# Altium integrated library Maxim Logic Multiplexer.IntLib: 168 symbols (part 3 of 4)
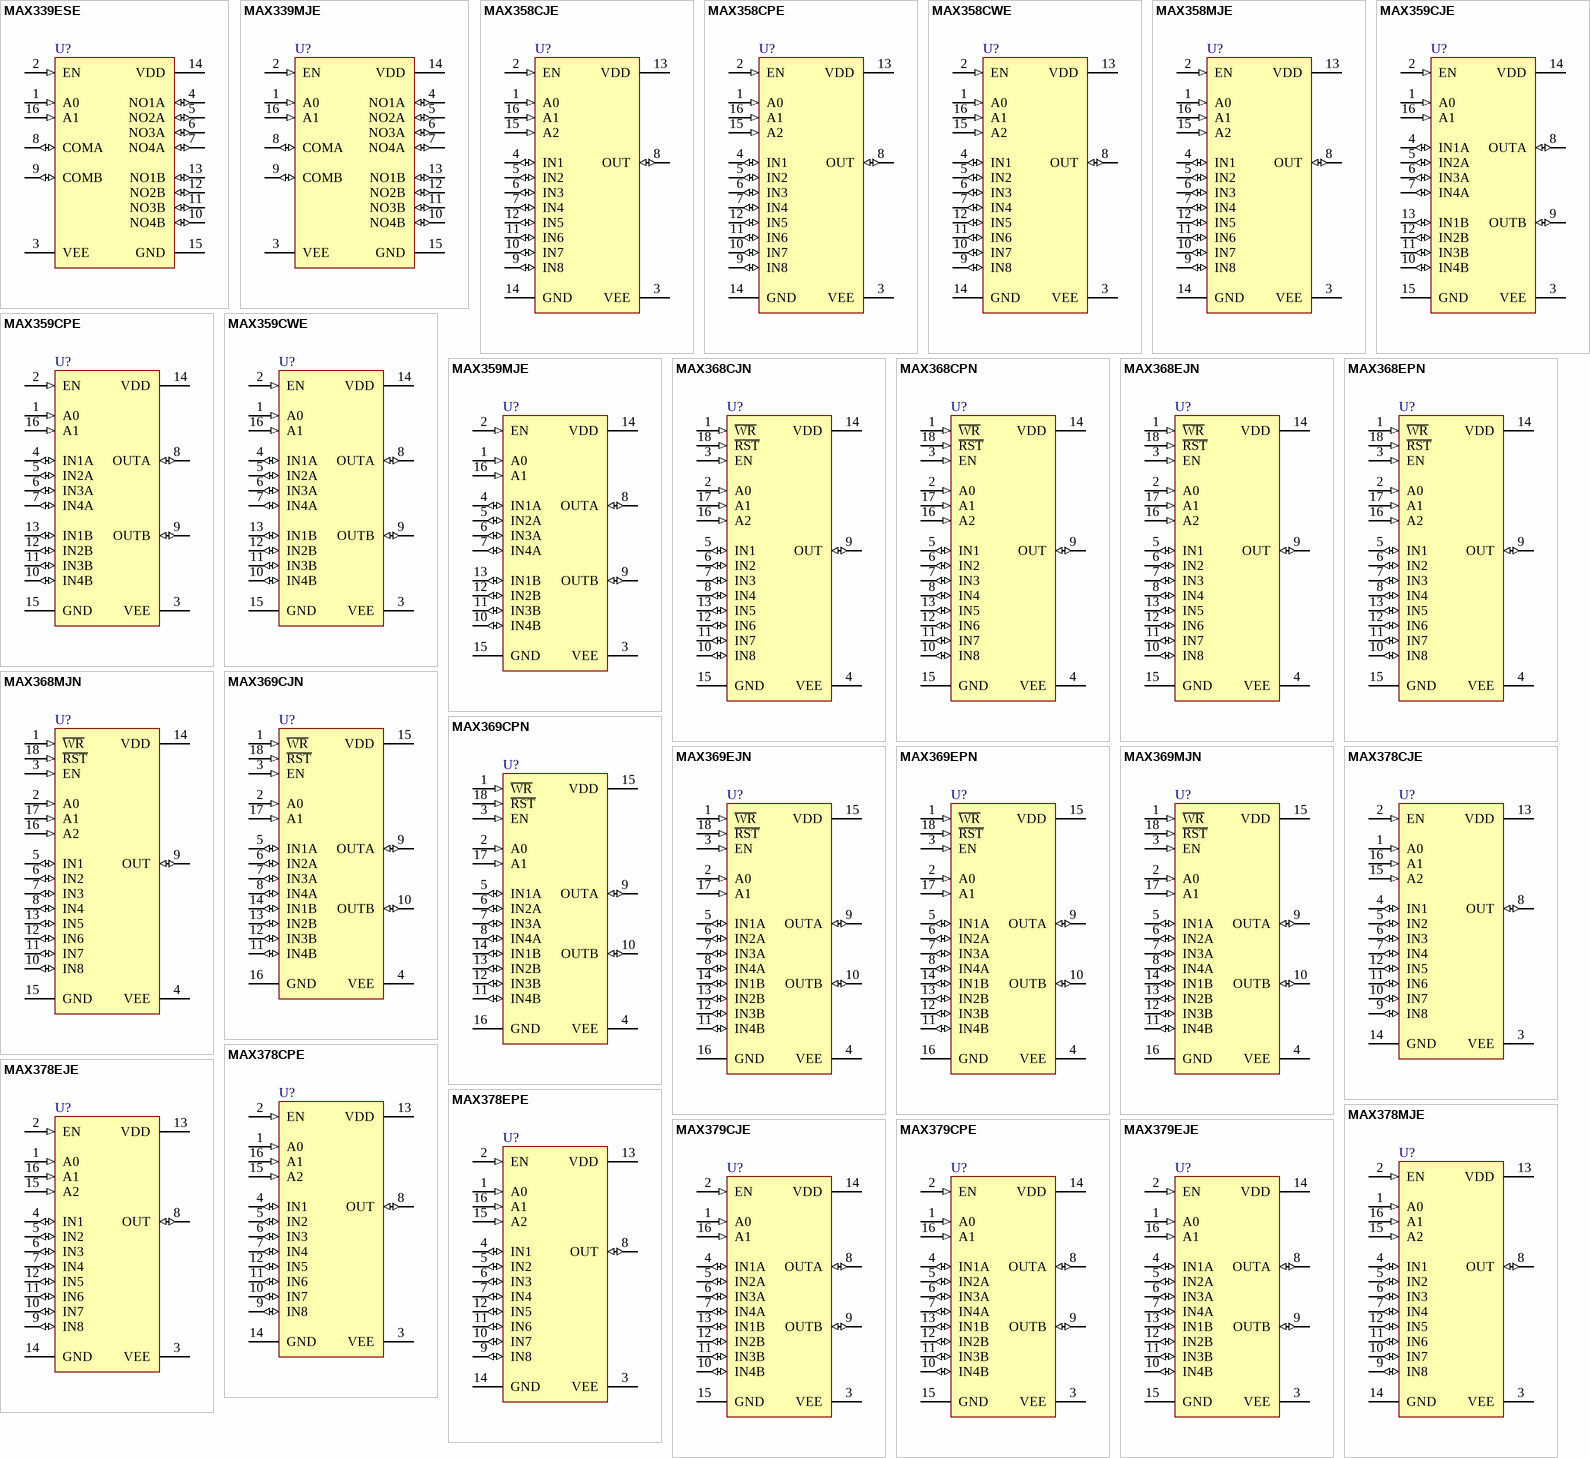
[diagram p8: symbols MAX339ESE to MAX379EJE]

## MAX369EPN
designator U?
Fault-protected Analog Multiplexer with Latch; Published: 16-Jan-2001; LatestRevisionDate: 29-May-2009; LatestRevisionNote: Component Body Added.; DatasheetVersion: Jul-1996; PackageVersion: 1997; PackageReference: PN18A; Publisher: Altium Limited; PackageDescription: DIP, 18-Pin, Row Spacing 7.62 mm, Pitch 2.54 mm; ComponentLink1Description: Manufacturer Link; ComponentLink1URL: http://www.maxim-ic.com/; ComponentLink2Description: Datasheet; ComponentLink2URL: http://pdfserv.maxim-ic.com/en/ds/MAX368-MAX369.pdf
footprint PN18A (DIP, 18-Leads, Row Spacing 7.62mm, Pitch 2.54mm, Body 22.86x6.99mm)
3D model PN18 (DIP, 18-Pin, Row Spacing 7.62 mm, Pitch 2.54 mm)
pins: 1 ~{WR} (in), 2 A0 (in), 3 EN (in), 4 VEE (power), 5 IN1A (io), 6 IN2A (io), 7 IN3A (io), 8 IN4A (io), 9 OUTA (io), 10 OUTB (io), 11 IN4B (io), 12 IN3B (io), 13 IN2B (io), 14 IN1B (io), 15 VDD (power), 16 GND (power), 17 A1 (in), 18 ~{RST} (in)

## MAX369MJN
designator U?
Fault-protected Analog Multiplexer with Latch; Published: 16-Jan-2001; LatestRevisionDate: 29-May-2009; LatestRevisionNote: Component Body Added.; DatasheetVersion: Jul-1996; PackageVersion: 1996; PackageReference: JN18; Publisher: Altium Limited; PackageDescription: DIP, 18-Pin, Row Spacing 7.62 mm, Pitch 2.54 mm; ComponentLink1Description: Manufacturer Link; ComponentLink1URL: http://www.maxim-ic.com/; ComponentLink2Description: Datasheet; ComponentLink2URL: http://pdfserv.maxim-ic.com/en/ds/MAX368-MAX369.pdf
footprint JN18 (DIP, 18-Leads, Row Spacing 7.62mm, Pitch 2.54mm, Body 24.13x6.73mm)
3D model JN18 (DIP, 18-Pin, Row Spacing 7.62 mm, Pitch 2.54 mm)
pins: 1 ~{WR} (in), 2 A0 (in), 3 EN (in), 4 VEE (power), 5 IN1A (io), 6 IN2A (io), 7 IN3A (io), 8 IN4A (io), 9 OUTA (io), 10 OUTB (io), 11 IN4B (io), 12 IN3B (io), 13 IN2B (io), 14 IN1B (io), 15 VDD (power), 16 GND (power), 17 A1 (in), 18 ~{RST} (in)

## MAX378CJE
designator U?
High-Voltage, Fault-Protected Analog Multiplexer; Published: 16-Jan-2001; LatestRevisionDate: 29-May-2009; LatestRevisionNote: Component Body Added.; DatasheetVersion: Aug-1994; PackageVersion: 1996; PackageReference: JE16; Publisher: Altium Limited; PackageDescription: DIP, 16-Pin, Row Spacing 7.62 mm, Pitch 2.54 mm; ComponentLink1Description: Manufacturer Link; ComponentLink1URL: http://www.maxim-ic.com/; ComponentLink2Description: Datasheet; ComponentLink2URL: http://pdfserv.maxim-ic.com/en/ds/MAX378-MAX379.pdf
footprint JE16 (DIP, 16-Leads, Row Spacing 7.62mm, Pitch 2.54mm, Body 20.37x6.73mm)
3D model JE16 (DIP, 16-Pin, Row Spacing 7.62 mm, Pitch 2.54 mm)
pins: 1 A0 (in), 2 EN (in), 3 VEE (power), 4 IN1 (io), 5 IN2 (io), 6 IN3 (io), 7 IN4 (io), 8 OUT (io), 9 IN8 (io), 10 IN7 (io), 11 IN6 (io), 12 IN5 (io), 13 VDD (power), 14 GND (power), 15 A2 (in), 16 A1 (in)

## MAX378CPE
designator U?
High-Voltage, Fault-Protected Analog Multiplexer; Published: 16-Jan-2001; LatestRevisionDate: 29-May-2009; LatestRevisionNote: Component Body Added.; DatasheetVersion: Aug-1994; PackageVersion: 1997; PackageReference: PE16A; Publisher: Altium Limited; PackageDescription: DIP, 16-Pin, Row Spacing 7.62 mm, Pitch 2.54 mm; Code_JEDEC: MS-001-BB; ComponentLink1Description: Manufacturer Link; ComponentLink1URL: http://www.maxim-ic.com/; ComponentLink2Description: Datasheet; ComponentLink2URL: http://pdfserv.maxim-ic.com/en/ds/MAX378-MAX379.pdf
footprint PE16A (DIP, 16-Leads, Row Spacing 7.62mm, Pitch 2.54mm, Body 19.18x6.99mm)
3D model PE16 (DIP, 16-Pin, Row Spacing 7.62 mm, Pitch 2.54 mm)
pins: 1 A0 (in), 2 EN (in), 3 VEE (power), 4 IN1 (io), 5 IN2 (io), 6 IN3 (io), 7 IN4 (io), 8 OUT (io), 9 IN8 (io), 10 IN7 (io), 11 IN6 (io), 12 IN5 (io), 13 VDD (power), 14 GND (power), 15 A2 (in), 16 A1 (in)

## MAX378EJE
designator U?
High-Voltage, Fault-Protected Analog Multiplexer; Published: 16-Jan-2001; LatestRevisionDate: 29-May-2009; LatestRevisionNote: Component Body Added.; DatasheetVersion: Aug-1994; PackageVersion: 1996; PackageReference: JE16; Publisher: Altium Limited; PackageDescription: DIP, 16-Pin, Row Spacing 7.62 mm, Pitch 2.54 mm; ComponentLink1Description: Manufacturer Link; ComponentLink1URL: http://www.maxim-ic.com/; ComponentLink2Description: Datasheet; ComponentLink2URL: http://pdfserv.maxim-ic.com/en/ds/MAX378-MAX379.pdf
footprint JE16 (DIP, 16-Leads, Row Spacing 7.62mm, Pitch 2.54mm, Body 20.37x6.73mm)
3D model JE16 (DIP, 16-Pin, Row Spacing 7.62 mm, Pitch 2.54 mm)
pins: 1 A0 (in), 2 EN (in), 3 VEE (power), 4 IN1 (io), 5 IN2 (io), 6 IN3 (io), 7 IN4 (io), 8 OUT (io), 9 IN8 (io), 10 IN7 (io), 11 IN6 (io), 12 IN5 (io), 13 VDD (power), 14 GND (power), 15 A2 (in), 16 A1 (in)

## MAX378EPE
designator U?
High-Voltage, Fault-Protected Analog Multiplexer; Published: 16-Jan-2001; LatestRevisionDate: 29-May-2009; LatestRevisionNote: Component Body Added.; DatasheetVersion: Aug-1994; PackageVersion: 1997; PackageReference: PE16A; Publisher: Altium Limited; PackageDescription: DIP, 16-Pin, Row Spacing 7.62 mm, Pitch 2.54 mm; Code_JEDEC: MS-001-BB; ComponentLink1Description: Manufacturer Link; ComponentLink1URL: http://www.maxim-ic.com/; ComponentLink2Description: Datasheet; ComponentLink2URL: http://pdfserv.maxim-ic.com/en/ds/MAX378-MAX379.pdf
footprint PE16A (DIP, 16-Leads, Row Spacing 7.62mm, Pitch 2.54mm, Body 19.18x6.99mm)
3D model PE16 (DIP, 16-Pin, Row Spacing 7.62 mm, Pitch 2.54 mm)
pins: 1 A0 (in), 2 EN (in), 3 VEE (power), 4 IN1 (io), 5 IN2 (io), 6 IN3 (io), 7 IN4 (io), 8 OUT (io), 9 IN8 (io), 10 IN7 (io), 11 IN6 (io), 12 IN5 (io), 13 VDD (power), 14 GND (power), 15 A2 (in), 16 A1 (in)

## MAX378MJE
designator U?
High-Voltage, Fault-Protected Analog Multiplexer; Published: 16-Jan-2001; LatestRevisionDate: 29-May-2009; LatestRevisionNote: Component Body Added.; DatasheetVersion: Aug-1994; PackageVersion: 1996; PackageReference: JE16; Publisher: Altium Limited; PackageDescription: DIP, 16-Pin, Row Spacing 7.62 mm, Pitch 2.54 mm; ComponentLink1Description: Manufacturer Link; ComponentLink1URL: http://www.maxim-ic.com/; ComponentLink2Description: Datasheet; ComponentLink2URL: http://pdfserv.maxim-ic.com/en/ds/MAX378-MAX379.pdf
footprint JE16 (DIP, 16-Leads, Row Spacing 7.62mm, Pitch 2.54mm, Body 20.37x6.73mm)
3D model JE16 (DIP, 16-Pin, Row Spacing 7.62 mm, Pitch 2.54 mm)
pins: 1 A0 (in), 2 EN (in), 3 VEE (power), 4 IN1 (io), 5 IN2 (io), 6 IN3 (io), 7 IN4 (io), 8 OUT (io), 9 IN8 (io), 10 IN7 (io), 11 IN6 (io), 12 IN5 (io), 13 VDD (power), 14 GND (power), 15 A2 (in), 16 A1 (in)

## MAX379CJE
designator U?
High-Voltage, Fault-Protected Analog Multiplexer; Published: 16-Jan-2001; LatestRevisionDate: 29-May-2009; LatestRevisionNote: Component Body Added.; DatasheetVersion: Aug-1994; PackageVersion: 1996; PackageReference: JE16; Publisher: Altium Limited; PackageDescription: DIP, 16-Pin, Row Spacing 7.62 mm, Pitch 2.54 mm; ComponentLink1Description: Manufacturer Link; ComponentLink1URL: http://www.maxim-ic.com/; ComponentLink2Description: Datasheet; ComponentLink2URL: http://pdfserv.maxim-ic.com/en/ds/MAX378-MAX379.pdf
footprint JE16 (DIP, 16-Leads, Row Spacing 7.62mm, Pitch 2.54mm, Body 20.37x6.73mm)
3D model JE16 (DIP, 16-Pin, Row Spacing 7.62 mm, Pitch 2.54 mm)
pins: 1 A0 (in), 2 EN (in), 3 VEE (power), 4 IN1A (io), 5 IN2A (io), 6 IN3A (io), 7 IN4A (io), 8 OUTA (io), 9 OUTB (io), 10 IN4B (io), 11 IN3B (io), 12 IN2B (io), 13 IN1B (io), 14 VDD (power), 15 GND (power), 16 A1 (in)

## MAX379CPE
designator U?
High-Voltage, Fault-Protected Analog Multiplexer; Published: 16-Jan-2001; LatestRevisionDate: 29-May-2009; LatestRevisionNote: Component Body Added.; DatasheetVersion: Aug-1994; PackageVersion: 1997; PackageReference: PE16A; Publisher: Altium Limited; PackageDescription: DIP, 16-Pin, Row Spacing 7.62 mm, Pitch 2.54 mm; Code_JEDEC: MS-001-BB; ComponentLink1Description: Manufacturer Link; ComponentLink1URL: http://www.maxim-ic.com/; ComponentLink2Description: Datasheet; ComponentLink2URL: http://pdfserv.maxim-ic.com/en/ds/MAX378-MAX379.pdf
footprint PE16A (DIP, 16-Leads, Row Spacing 7.62mm, Pitch 2.54mm, Body 19.18x6.99mm)
3D model PE16 (DIP, 16-Pin, Row Spacing 7.62 mm, Pitch 2.54 mm)
pins: 1 A0 (in), 2 EN (in), 3 VEE (power), 4 IN1A (io), 5 IN2A (io), 6 IN3A (io), 7 IN4A (io), 8 OUTA (io), 9 OUTB (io), 10 IN4B (io), 11 IN3B (io), 12 IN2B (io), 13 IN1B (io), 14 VDD (power), 15 GND (power), 16 A1 (in)

## MAX379EJE
designator U?
High-Voltage, Fault-Protected Analog Multiplexer; Published: 16-Jan-2001; LatestRevisionDate: 29-May-2009; LatestRevisionNote: Component Body Added.; DatasheetVersion: Aug-1994; PackageVersion: 1996; PackageReference: JE16; Publisher: Altium Limited; PackageDescription: DIP, 16-Pin, Row Spacing 7.62 mm, Pitch 2.54 mm; ComponentLink1Description: Manufacturer Link; ComponentLink1URL: http://www.maxim-ic.com/; ComponentLink2Description: Datasheet; ComponentLink2URL: http://pdfserv.maxim-ic.com/en/ds/MAX378-MAX379.pdf
footprint JE16 (DIP, 16-Leads, Row Spacing 7.62mm, Pitch 2.54mm, Body 20.37x6.73mm)
3D model JE16 (DIP, 16-Pin, Row Spacing 7.62 mm, Pitch 2.54 mm)
pins: 1 A0 (in), 2 EN (in), 3 VEE (power), 4 IN1A (io), 5 IN2A (io), 6 IN3A (io), 7 IN4A (io), 8 OUTA (io), 9 OUTB (io), 10 IN4B (io), 11 IN3B (io), 12 IN2B (io), 13 IN1B (io), 14 VDD (power), 15 GND (power), 16 A1 (in)

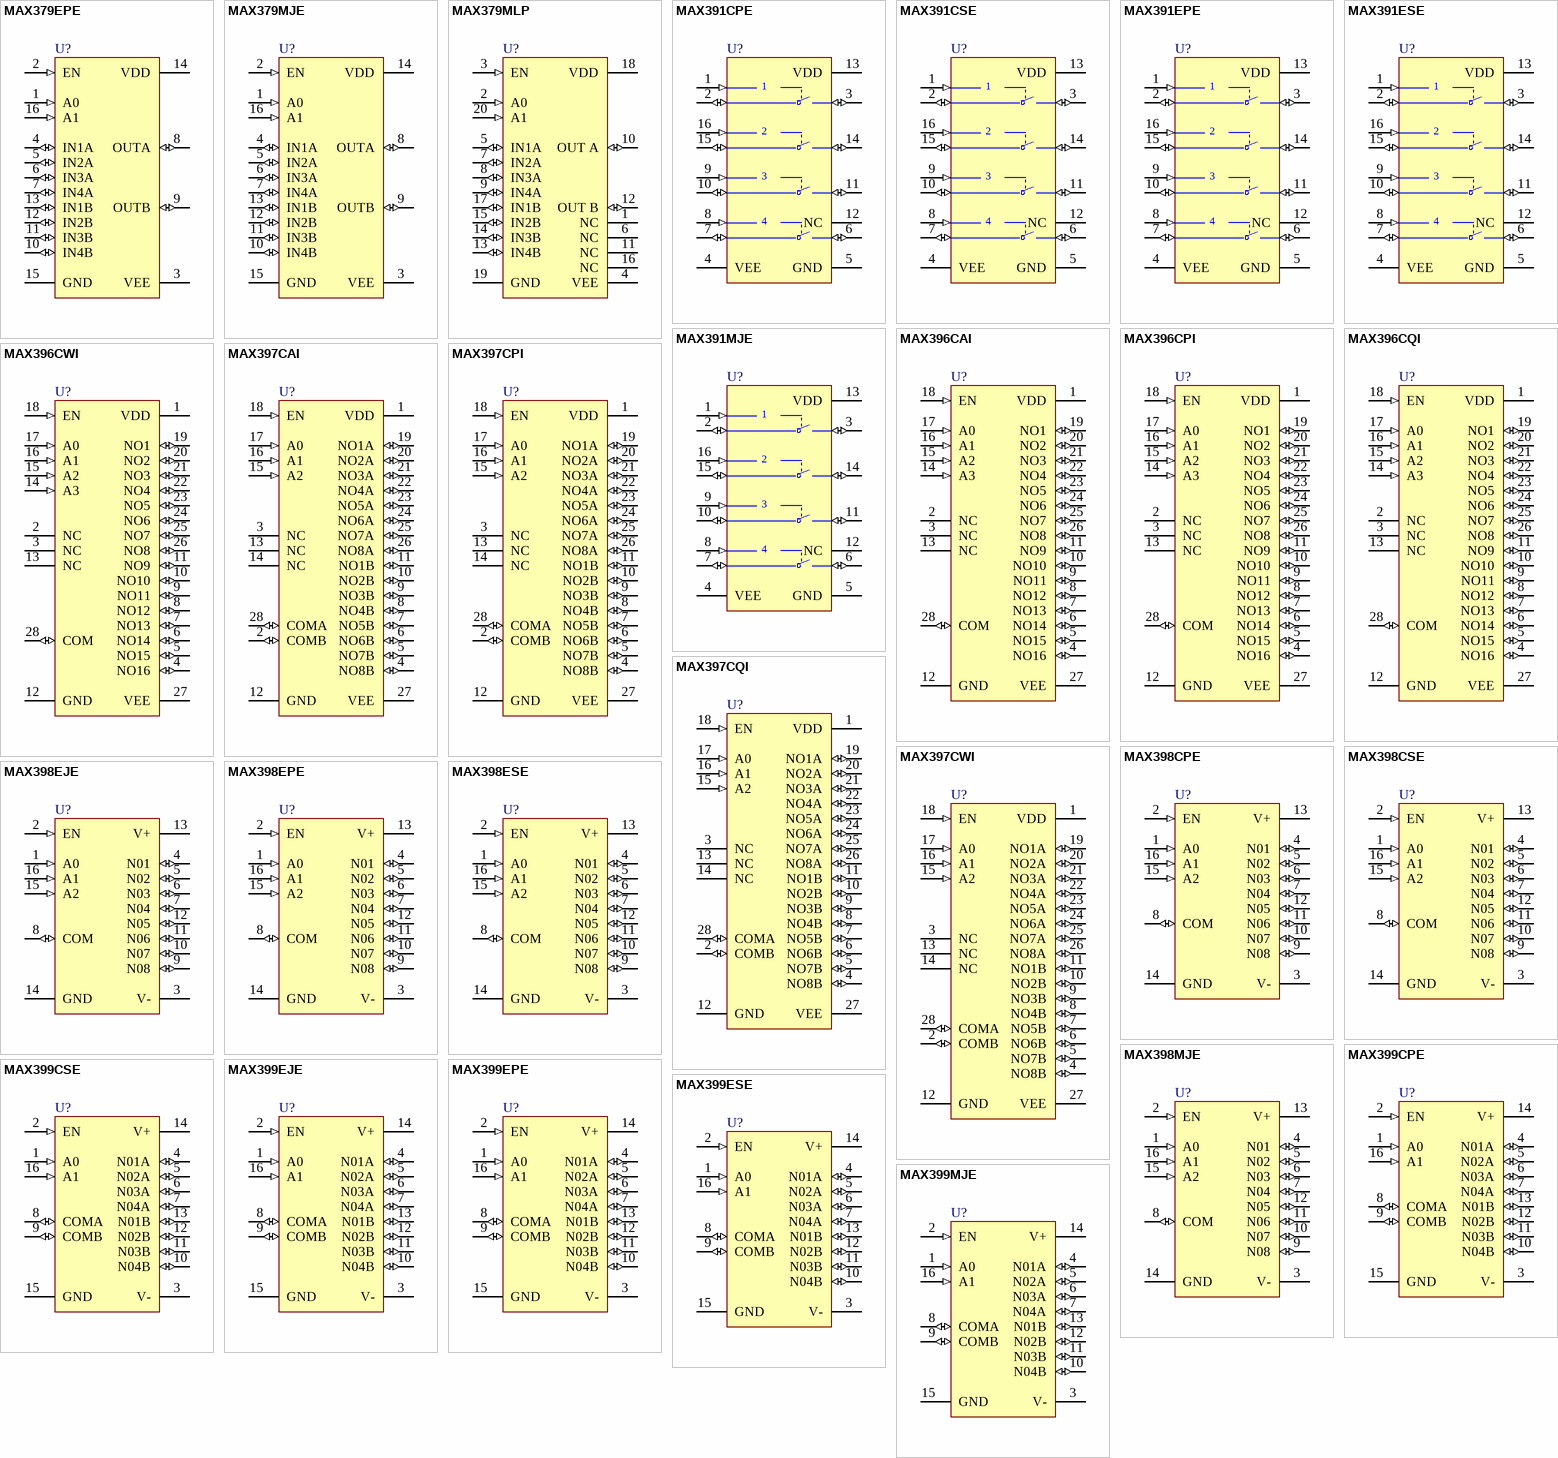
[diagram p4: symbols MAX379EPE to MAX399MJE]

## MAX379EPE
designator U?
High-Voltage, Fault-Protected Analog Multiplexer; Published: 16-Jan-2001; LatestRevisionDate: 29-May-2009; LatestRevisionNote: Component Body Added.; DatasheetVersion: Aug-1994; PackageVersion: 1997; PackageReference: PE16A; Publisher: Altium Limited; PackageDescription: DIP, 16-Pin, Row Spacing 7.62 mm, Pitch 2.54 mm; Code_JEDEC: MS-001-BB; ComponentLink1Description: Manufacturer Link; ComponentLink1URL: http://www.maxim-ic.com/; ComponentLink2Description: Datasheet; ComponentLink2URL: http://pdfserv.maxim-ic.com/en/ds/MAX378-MAX379.pdf
footprint PE16A (DIP, 16-Leads, Row Spacing 7.62mm, Pitch 2.54mm, Body 19.18x6.99mm)
3D model PE16 (DIP, 16-Pin, Row Spacing 7.62 mm, Pitch 2.54 mm)
pins: 1 A0 (in), 2 EN (in), 3 VEE (power), 4 IN1A (io), 5 IN2A (io), 6 IN3A (io), 7 IN4A (io), 8 OUTA (io), 9 OUTB (io), 10 IN4B (io), 11 IN3B (io), 12 IN2B (io), 13 IN1B (io), 14 VDD (power), 15 GND (power), 16 A1 (in)

## MAX379MJE
designator U?
High-Voltage, Fault-Protected Analog Multiplexer; Published: 16-Jan-2001; LatestRevisionDate: 29-May-2009; LatestRevisionNote: Component Body Added.; DatasheetVersion: Aug-1994; PackageVersion: 1996; PackageReference: JE16; Publisher: Altium Limited; PackageDescription: DIP, 16-Pin, Row Spacing 7.62 mm, Pitch 2.54 mm; ComponentLink1Description: Manufacturer Link; ComponentLink1URL: http://www.maxim-ic.com/; ComponentLink2Description: Datasheet; ComponentLink2URL: http://pdfserv.maxim-ic.com/en/ds/MAX378-MAX379.pdf
footprint JE16 (DIP, 16-Leads, Row Spacing 7.62mm, Pitch 2.54mm, Body 20.37x6.73mm)
3D model JE16 (DIP, 16-Pin, Row Spacing 7.62 mm, Pitch 2.54 mm)
pins: 1 A0 (in), 2 EN (in), 3 VEE (power), 4 IN1A (io), 5 IN2A (io), 6 IN3A (io), 7 IN4A (io), 8 OUTA (io), 9 OUTB (io), 10 IN4B (io), 11 IN3B (io), 12 IN2B (io), 13 IN1B (io), 14 VDD (power), 15 GND (power), 16 A1 (in)

## MAX379MLP
designator U?
High-Voltage, Fault-Protected Analog Multiplexer; Published: 16-Jan-2001; LatestRevisionDate: 17-Jul-2002; LatestRevisionNote: Re-released for DXP Platform.; DatasheetVersion: Aug-1994; PackageReference: LCC20; Publisher: Altium Limited; PackageDescription: Leadless Chip Carrier; 20 Terminals; Body 8.9 x 8.9 mm; ComponentLink1Description: Manufacturer Link; ComponentLink1URL: http://www.maxim-ic.com/; ComponentLink2Description: Datasheet; ComponentLink2URL: http://pdfserv.maxim-ic.com/en/ds/MAX378-MAX379.pdf
footprint LCC20 (Leadless Chip Carrier; 20 Terminals; Body 8.9 x 8.9 mm)
footprint LCC20_N (Leadless Chip Carrier, 20-Leads, Body 8.9x8.9mm, Pitch 1.27mm, IPC Medium Density)
footprint LCC20_L (Leadless Chip Carrier, 20-Leads, Body 8.9x8.9mm, Pitch 1.27mm, IPC High Density)
footprint LCC20_M (Leadless Chip Carrier, 20-Leads, Body 8.9x8.9mm, Pitch 1.27mm, IPC Low Density)
pins: 1 NC, 2 A0 (in), 3 EN (in), 4 VEE (power), 5 IN1A (io), 6 NC, 7 IN2A (io), 8 IN3A (io), 9 IN4A (io), 10 OUT A (io), 11 NC, 12 OUT B (io), 13 IN4B (io), 14 IN3B (io), 15 IN2B (io), 16 NC, 17 IN1B (io), 18 VDD (power), 19 GND (power), 20 A1 (in)

## MAX391CPE
designator U?
Precision, Quad, SPST,  Analog Switch; Published: 16-Jan-2001; LatestRevisionDate: 29-May-2009; LatestRevisionNote: Component Body Added.; DatasheetVersion: Mar-1994; PackageVersion: 1997; PackageReference: PE16A; Publisher: Altium Limited; PackageDescription: DIP, 16-Pin, Row Spacing 7.62 mm, Pitch 2.54 mm; Code_JEDEC: MS-001-BB; ComponentLink1Description: Manufacturer Link; ComponentLink1URL: http://www.maxim-ic.com/; ComponentLink2Description: Datasheet; ComponentLink2URL: http://pdfserv.maxim-ic.com/en/ds/MAX391-MAX393.pdf
footprint PE16A (DIP, 16-Leads, Row Spacing 7.62mm, Pitch 2.54mm, Body 19.18x6.99mm)
3D model PE16 (DIP, 16-Pin, Row Spacing 7.62 mm, Pitch 2.54 mm)
pins: 1 IN1 (in), 2 COM1 (io), 3 OUT1 (io), 4 VEE (power), 5 GND (power), 6 OUT4 (io), 7 COM4 (io), 8 IN4 (in), 9 IN3 (in), 10 COM3 (io), 11 OUT3 (io), 12 NC, 13 VDD (power), 14 OUT2 (io), 15 COM2 (io), 16 IN2 (in)

## MAX391CSE
designator U?
Precision, Quad, SPST,  Analog Switch; Published: 16-Jan-2001; LatestRevisionDate: 13-Apr-2006; LatestRevisionNote: IPC-7351 Footprint Added.; DatasheetVersion: Mar-1994; PackageReference: NSO16; Publisher: Altium Limited; PackageDescription: 16-Pin Small Outline Integrated Circuit 1.27 mm Pitch; Code_JEDEC: MS-012-AC; Code_IPC: SOIC127P600-16; ComponentLink1Description: Manufacturer Link; ComponentLink1URL: http://www.maxim-ic.com/; ComponentLink2Description: Datasheet; ComponentLink2URL: http://pdfserv.maxim-ic.com/en/ds/MAX391-MAX393.pdf
footprint NSO16_N (SOIC, 16-Leads, Body 9.9x3.9mm, Pitch 1.27mm, IPC Medium Density)
footprint NSO16_L (SOIC, 16-Leads, Body 9.9x3.9mm, Pitch 1.27mm, IPC High Density)
footprint NSO16_M (SOIC, 16-Leads, Body 9.9x3.9mm, Pitch 1.27mm, IPC Low Density)
3D model NSO16 (16-Pin Small Outline Integrated Circuit 1.27 mm Pitch)
pins: 1 IN1 (in), 2 COM1 (io), 3 OUT1 (io), 4 VEE (power), 5 GND (power), 6 OUT4 (io), 7 COM4 (io), 8 IN4 (in), 9 IN3 (in), 10 COM3 (io), 11 OUT3 (io), 12 NC, 13 VDD (power), 14 OUT2 (io), 15 COM2 (io), 16 IN2 (in)

## MAX391EPE
designator U?
Precision, Quad, SPST,  Analog Switch; Published: 16-Jan-2001; LatestRevisionDate: 29-May-2009; LatestRevisionNote: Component Body Added.; DatasheetVersion: Mar-1994; PackageVersion: 1997; PackageReference: PE16A; Publisher: Altium Limited; PackageDescription: DIP, 16-Pin, Row Spacing 7.62 mm, Pitch 2.54 mm; Code_JEDEC: MS-001-BB; ComponentLink1Description: Manufacturer Link; ComponentLink1URL: http://www.maxim-ic.com/; ComponentLink2Description: Datasheet; ComponentLink2URL: http://pdfserv.maxim-ic.com/en/ds/MAX391-MAX393.pdf
footprint PE16A (DIP, 16-Leads, Row Spacing 7.62mm, Pitch 2.54mm, Body 19.18x6.99mm)
3D model PE16 (DIP, 16-Pin, Row Spacing 7.62 mm, Pitch 2.54 mm)
pins: 1 IN1 (in), 2 COM1 (io), 3 OUT1 (io), 4 VEE (power), 5 GND (power), 6 OUT4 (io), 7 COM4 (io), 8 IN4 (in), 9 IN3 (in), 10 COM3 (io), 11 OUT3 (io), 12 NC, 13 VDD (power), 14 OUT2 (io), 15 COM2 (io), 16 IN2 (in)

## MAX391ESE
designator U?
Precision, Quad, SPST,  Analog Switch; Published: 16-Jan-2001; LatestRevisionDate: 13-Apr-2006; LatestRevisionNote: IPC-7351 Footprint Added.; DatasheetVersion: Mar-1994; PackageReference: NSO16; Publisher: Altium Limited; PackageDescription: 16-Pin Small Outline Integrated Circuit 1.27 mm Pitch; Code_JEDEC: MS-012-AC; Code_IPC: SOIC127P600-16; ComponentLink1Description: Manufacturer Link; ComponentLink1URL: http://www.maxim-ic.com/; ComponentLink2Description: Datasheet; ComponentLink2URL: http://pdfserv.maxim-ic.com/en/ds/MAX391-MAX393.pdf
footprint NSO16_N (SOIC, 16-Leads, Body 9.9x3.9mm, Pitch 1.27mm, IPC Medium Density)
footprint NSO16_L (SOIC, 16-Leads, Body 9.9x3.9mm, Pitch 1.27mm, IPC High Density)
footprint NSO16_M (SOIC, 16-Leads, Body 9.9x3.9mm, Pitch 1.27mm, IPC Low Density)
3D model NSO16 (16-Pin Small Outline Integrated Circuit 1.27 mm Pitch)
pins: 1 IN1 (in), 2 COM1 (io), 3 OUT1 (io), 4 VEE (power), 5 GND (power), 6 OUT4 (io), 7 COM4 (io), 8 IN4 (in), 9 IN3 (in), 10 COM3 (io), 11 OUT3 (io), 12 NC, 13 VDD (power), 14 OUT2 (io), 15 COM2 (io), 16 IN2 (in)

## MAX391MJE
designator U?
Precision, Quad, SPST,  Analog Switch; Published: 16-Jan-2001; LatestRevisionDate: 29-May-2009; LatestRevisionNote: Component Body Added.; DatasheetVersion: Mar-1994; PackageVersion: 1996; PackageReference: JE16; Publisher: Altium Limited; PackageDescription: DIP, 16-Pin, Row Spacing 7.62 mm, Pitch 2.54 mm; ComponentLink1Description: Manufacturer Link; ComponentLink1URL: http://www.maxim-ic.com/; ComponentLink2Description: Datasheet; ComponentLink2URL: http://pdfserv.maxim-ic.com/en/ds/MAX391-MAX393.pdf
footprint JE16 (DIP, 16-Leads, Row Spacing 7.62mm, Pitch 2.54mm, Body 20.37x6.73mm)
3D model JE16 (DIP, 16-Pin, Row Spacing 7.62 mm, Pitch 2.54 mm)
pins: 1 IN1 (in), 2 COM1 (io), 3 OUT1 (io), 4 VEE (power), 5 GND (power), 6 OUT4 (io), 7 COM4 (io), 8 IN4 (in), 9 IN3 (in), 10 COM3 (io), 11 OUT3 (io), 12 NC, 13 VDD (power), 14 OUT2 (io), 15 COM2 (io), 16 IN2 (in)

## MAX396CAI
designator U?
Precision, 16-Channel Low Voltage, CMOS Analog Multiplexer; Published: 16-Jan-2001; LatestRevisionDate: 29-May-2009; LatestRevisionNote: IPC-7351 Footprint Added.; DatasheetVersion: Sep-1996; PackageVersion: Jul-2000; PackageReference: SSOP28; Publisher: Altium Limited; PackageDescription: 28-Pin Small Outline Package 0.65 mm Pitch; Code_JEDEC: MO-150-AH; Code_IPC: SOP65P780-28; ComponentLink1Description: Manufacturer Link; ComponentLink1URL: http://www.maxim-ic.com/; ComponentLink2Description: Datasheet; ComponentLink2URL: http://pdfserv.maxim-ic.com/en/ds/MAX396-MAX397.pdf
footprint SSOP28_N (SOP, 28-Leads, Body 10.2x5.3mm, Pitch 0.65mm, IPC Medium Density)
footprint SSOP28_L (SOP, 28-Leads, Body 10.2x5.3mm, Pitch 0.65mm, IPC High Density)
footprint SSOP28_M (SOP, 28-Leads, Body 10.2x5.3mm, Pitch 0.65mm, IPC Low Density)
3D model SSOP28 (28-Pin Small Outline Package 0.65 mm Pitch)
pins: 1 VDD (power), 2 NC, 3 NC, 4 NO16 (io), 5 NO15 (io), 6 NO14 (io), 7 NO13 (io), 8 NO12 (io), 9 NO11 (io), 10 NO10 (io), 11 NO9 (io), 12 GND (power), 13 NC, 14 A3 (in), 15 A2 (in), 16 A1 (in), 17 A0 (in), 18 EN (in), 19 NO1 (io), 20 NO2 (io), 21 NO3 (io), 22 NO4 (io), 23 NO5 (io), 24 NO6 (io), 25 NO7 (io), 26 NO8 (io), 27 VEE (power), 28 COM (io)

## MAX396CPI
designator U?
Precision, 16-Channel Low Voltage, CMOS Analog Multiplexer; Published: 16-Jan-2001; LatestRevisionDate: 29-May-2009; LatestRevisionNote: Component Body Added.; DatasheetVersion: Sep-1996; PackageVersion: 1997; PackageReference: NI28A; Publisher: Altium Limited; PackageDescription: DIP, 28-Pin, Row Spacing 7.62 mm, Pitch 2.54 mm; ComponentLink1Description: Manufacturer Link; ComponentLink1URL: http://www.maxim-ic.com/; ComponentLink2Description: Datasheet; ComponentLink2URL: http://pdfserv.maxim-ic.com/en/ds/MAX396-MAX397.pdf
footprint NI28A (DIP, 28-Leads, Row Spacing 7.62mm, Pitch 2.54mm, Body 34.8x6.99mm)
3D model NI28 (DIP, 28-Pin, Row Spacing 7.62 mm, Pitch 2.54 mm)
pins: 1 VDD (power), 2 NC, 3 NC, 4 NO16 (io), 5 NO15 (io), 6 NO14 (io), 7 NO13 (io), 8 NO12 (io), 9 NO11 (io), 10 NO10 (io), 11 NO9 (io), 12 GND (power), 13 NC, 14 A3 (in), 15 A2 (in), 16 A1 (in), 17 A0 (in), 18 EN (in), 19 NO1 (io), 20 NO2 (io), 21 NO3 (io), 22 NO4 (io), 23 NO5 (io), 24 NO6 (io), 25 NO7 (io), 26 NO8 (io), 27 VEE (power), 28 COM (io)

## MAX396CQI
designator U?
Precision, 16-Channel Low Voltage, CMOS Analog Multiplexer; Published: 16-Jan-2001; LatestRevisionDate: 13-Apr-2006; LatestRevisionNote: IPC-7351 Footprint Added.; DatasheetVersion: Sep-1996; PackageReference: PLCC28; Publisher: Altium Limited; PackageDescription: 28-Pin Leaded Chip Carrier 1.27 mm Pitch; Code_IPC: PLCC-28; ComponentLink1Description: Manufacturer Link; ComponentLink1URL: http://www.maxim-ic.com/; ComponentLink2Description: Datasheet; ComponentLink2URL: http://pdfserv.maxim-ic.com/en/ds/MAX396-MAX397.pdf
footprint PLCC28_N (Leaded Chip Carrier, 28-Leads, Body 11.5x11.5mm, Pitch 1.27mm, IPC Medium Density)
footprint PLCC28_L (Leaded Chip Carrier, 28-Leads, Body 11.5x11.5mm, Pitch 1.27mm, IPC High Density)
footprint PLCC28_M (Leaded Chip Carrier, 28-Leads, Body 11.5x11.5mm, Pitch 1.27mm, IPC Low Density)
3D model MAX396-PLCC28 (28-Pin Leaded Chip Carrier 1.27 mm Pitch)
pins: 1 VDD (power), 2 NC, 3 NC, 4 NO16 (io), 5 NO15 (io), 6 NO14 (io), 7 NO13 (io), 8 NO12 (io), 9 NO11 (io), 10 NO10 (io), 11 NO9 (io), 12 GND (power), 13 NC, 14 A3 (in), 15 A2 (in), 16 A1 (in), 17 A0 (in), 18 EN (in), 19 NO1 (io), 20 NO2 (io), 21 NO3 (io), 22 NO4 (io), 23 NO5 (io), 24 NO6 (io), 25 NO7 (io), 26 NO8 (io), 27 VEE (power), 28 COM (io)

## MAX396CWI
designator U?
Precision, 16-Channel Low Voltage, CMOS Analog Multiplexer; Published: 16-Jan-2001; LatestRevisionDate: 13-Apr-2006; LatestRevisionNote: IPC-7351 Footprint Added.; DatasheetVersion: Sep-1996; PackageReference: WSO28; Publisher: Altium Limited; PackageDescription: 28-Pin Small Outline Integrated Circuit 1.27 mm Pitch; ComponentLink1Description: Manufacturer Link; ComponentLink1URL: http://www.maxim-ic.com/; ComponentLink2Description: Datasheet; ComponentLink2URL: http://pdfserv.maxim-ic.com/en/ds/MAX396-MAX397.pdf
footprint WSO28_N (SOIC, 28-Leads, Body 17.9x7.5mm, Pitch 1.27mm, IPC Medium Density)
footprint WSO28_L (SOIC, 28-Leads, Body 17.9x7.5mm, Pitch 1.27mm, IPC High Density)
footprint WSO28_M (SOIC, 28-Leads, Body 17.9x7.5mm, Pitch 1.27mm, IPC Low Density)
3D model WSO28 (28-Pin Small Outline Integrated Circuit 1.27 mm Pitch)
pins: 1 VDD (power), 2 NC, 3 NC, 4 NO16 (io), 5 NO15 (io), 6 NO14 (io), 7 NO13 (io), 8 NO12 (io), 9 NO11 (io), 10 NO10 (io), 11 NO9 (io), 12 GND (power), 13 NC, 14 A3 (in), 15 A2 (in), 16 A1 (in), 17 A0 (in), 18 EN (in), 19 NO1 (io), 20 NO2 (io), 21 NO3 (io), 22 NO4 (io), 23 NO5 (io), 24 NO6 (io), 25 NO7 (io), 26 NO8 (io), 27 VEE (power), 28 COM (io)

## MAX397CAI
designator U?
Precision, Dual 8 Channel, Low Voltage, CMOS Analog Multiplexer; Published: 16-Jan-2001; LatestRevisionDate: 29-May-2009; LatestRevisionNote: IPC-7351 Footprint Added.; DatasheetVersion: Sep-1996; PackageVersion: Jul-2000; PackageReference: SSOP28; Publisher: Altium Limited; PackageDescription: 28-Pin Small Outline Package 0.65 mm Pitch; Code_JEDEC: MO-150-AH; Code_IPC: SOP65P780-28; ComponentLink1Description: Manufacturer Link; ComponentLink1URL: http://www.maxim-ic.com/; ComponentLink2Description: Datasheet; ComponentLink2URL: http://pdfserv.maxim-ic.com/en/ds/MAX396-MAX397.pdf
footprint SSOP28_N (SOP, 28-Leads, Body 10.2x5.3mm, Pitch 0.65mm, IPC Medium Density)
footprint SSOP28_L (SOP, 28-Leads, Body 10.2x5.3mm, Pitch 0.65mm, IPC High Density)
footprint SSOP28_M (SOP, 28-Leads, Body 10.2x5.3mm, Pitch 0.65mm, IPC Low Density)
3D model SSOP28 (28-Pin Small Outline Package 0.65 mm Pitch)
pins: 1 VDD (power), 2 COMB (io), 3 NC, 4 NO8B (io), 5 NO7B (io), 6 NO6B (io), 7 NO5B (io), 8 NO4B (io), 9 NO3B (io), 10 NO2B (io), 11 NO1B (io), 12 GND (power), 13 NC, 14 NC, 15 A2 (in), 16 A1 (in), 17 A0 (in), 18 EN (in), 19 NO1A (io), 20 NO2A (io), 21 NO3A (io), 22 NO4A (io), 23 NO5A (io), 24 NO6A (io), 25 NO7A (io), 26 NO8A (io), 27 VEE (power), 28 COMA (io)

## MAX397CPI
designator U?
Precision, Dual 8 Channel, Low Voltage, CMOS Analog Multiplexer; Published: 16-Jan-2001; LatestRevisionDate: 29-May-2009; LatestRevisionNote: Component Body Added.; DatasheetVersion: Sep-1996; PackageVersion: 1997; PackageReference: NI28A; Publisher: Altium Limited; PackageDescription: DIP, 28-Pin, Row Spacing 7.62 mm, Pitch 2.54 mm; ComponentLink1Description: Manufacturer Link; ComponentLink1URL: http://www.maxim-ic.com/; ComponentLink2Description: Datasheet; ComponentLink2URL: http://pdfserv.maxim-ic.com/en/ds/MAX396-MAX397.pdf
footprint NI28A (DIP, 28-Leads, Row Spacing 7.62mm, Pitch 2.54mm, Body 34.8x6.99mm)
3D model NI28 (DIP, 28-Pin, Row Spacing 7.62 mm, Pitch 2.54 mm)
pins: 1 VDD (power), 2 COMB (io), 3 NC, 4 NO8B (io), 5 NO7B (io), 6 NO6B (io), 7 NO5B (io), 8 NO4B (io), 9 NO3B (io), 10 NO2B (io), 11 NO1B (io), 12 GND (power), 13 NC, 14 NC, 15 A2 (in), 16 A1 (in), 17 A0 (in), 18 EN (in), 19 NO1A (io), 20 NO2A (io), 21 NO3A (io), 22 NO4A (io), 23 NO5A (io), 24 NO6A (io), 25 NO7A (io), 26 NO8A (io), 27 VEE (power), 28 COMA (io)

## MAX397CQI
designator U?
Precision, Dual 8 Channel, Low Voltage, CMOS Analog Multiplexer; Published: 16-Jan-2001; LatestRevisionDate: 13-Apr-2006; LatestRevisionNote: IPC-7351 Footprint Added.; DatasheetVersion: Sep-1996; PackageReference: PLCC28; Publisher: Altium Limited; PackageDescription: 28-Pin Leaded Chip Carrier 1.27 mm Pitch; Code_IPC: PLCC-28; ComponentLink1Description: Manufacturer Link; ComponentLink1URL: http://www.maxim-ic.com/; ComponentLink2Description: Datasheet; ComponentLink2URL: http://pdfserv.maxim-ic.com/en/ds/MAX396-MAX397.pdf
footprint PLCC28_N (Leaded Chip Carrier, 28-Leads, Body 11.5x11.5mm, Pitch 1.27mm, IPC Medium Density)
footprint PLCC28_L (Leaded Chip Carrier, 28-Leads, Body 11.5x11.5mm, Pitch 1.27mm, IPC High Density)
footprint PLCC28_M (Leaded Chip Carrier, 28-Leads, Body 11.5x11.5mm, Pitch 1.27mm, IPC Low Density)
3D model MAX397-PLCC28 (28-Pin Leaded Chip Carrier 1.27 mm Pitch)
pins: 1 VDD (power), 2 COMB (io), 3 NC, 4 NO8B (io), 5 NO7B (io), 6 NO6B (io), 7 NO5B (io), 8 NO4B (io), 9 NO3B (io), 10 NO2B (io), 11 NO1B (io), 12 GND (power), 13 NC, 14 NC, 15 A2 (in), 16 A1 (in), 17 A0 (in), 18 EN (in), 19 NO1A (io), 20 NO2A (io), 21 NO3A (io), 22 NO4A (io), 23 NO5A (io), 24 NO6A (io), 25 NO7A (io), 26 NO8A (io), 27 VEE (power), 28 COMA (io)

## MAX397CWI
designator U?
Precision, Dual 8 Channel, Low Voltage, CMOS Analog Multiplexer; Published: 16-Jan-2001; LatestRevisionDate: 13-Apr-2006; LatestRevisionNote: IPC-7351 Footprint Added.; DatasheetVersion: Sep-1996; PackageReference: WSO28; Publisher: Altium Limited; PackageDescription: 28-Pin Small Outline Integrated Circuit 1.27 mm Pitch; ComponentLink1Description: Manufacturer Link; ComponentLink1URL: http://www.maxim-ic.com/; ComponentLink2Description: Datasheet; ComponentLink2URL: http://pdfserv.maxim-ic.com/en/ds/MAX396-MAX397.pdf
footprint WSO28_N (SOIC, 28-Leads, Body 17.9x7.5mm, Pitch 1.27mm, IPC Medium Density)
footprint WSO28_L (SOIC, 28-Leads, Body 17.9x7.5mm, Pitch 1.27mm, IPC High Density)
footprint WSO28_M (SOIC, 28-Leads, Body 17.9x7.5mm, Pitch 1.27mm, IPC Low Density)
3D model WSO28 (28-Pin Small Outline Integrated Circuit 1.27 mm Pitch)
pins: 1 VDD (power), 2 COMB (io), 3 NC, 4 NO8B (io), 5 NO7B (io), 6 NO6B (io), 7 NO5B (io), 8 NO4B (io), 9 NO3B (io), 10 NO2B (io), 11 NO1B (io), 12 GND (power), 13 NC, 14 NC, 15 A2 (in), 16 A1 (in), 17 A0 (in), 18 EN (in), 19 NO1A (io), 20 NO2A (io), 21 NO3A (io), 22 NO4A (io), 23 NO5A (io), 24 NO6A (io), 25 NO7A (io), 26 NO8A (io), 27 VEE (power), 28 COMA (io)

## MAX398CPE
designator U?
Precision, 8-Channel, Low-Voltage, CMOS Analog Multiplexer; Published: 16-Jan-2001; LatestRevisionDate: 29-May-2009; LatestRevisionNote: Component Body Added.; DatasheetVersion: Jul-1996; PackageVersion: Aug-2000; PackageReference: PE16; Publisher: Altium Limited; PackageDescription: DIP, 16-Pin, Row Spacing 7.62 mm, Pitch 2.54 mm; Code_JEDEC: MS-001-BB; ComponentLink1Description: Manufacturer Link; ComponentLink1URL: http://www.maxim-ic.com/; ComponentLink2Description: Datasheet; ComponentLink2URL: http://pdfserv.maxim-ic.com/en/ds/MAX398-MAX399.pdf
footprint PE16 (DIP, 16-Leads, Row Spacing 7.62mm, Pitch 2.54mm, Body 19.18x7.24mm)
3D model PE16 (DIP, 16-Pin, Row Spacing 7.62 mm, Pitch 2.54 mm)
pins: 1 A0 (in), 2 EN (in), 3 V- (power), 4 N01 (io), 5 N02 (io), 6 N03 (io), 7 N04 (io), 8 COM (io), 9 N08 (io), 10 N07 (io), 11 N06 (io), 12 N05 (io), 13 V+ (power), 14 GND (power), 15 A2 (in), 16 A1 (in)

## MAX398CSE
designator U?
Precision, 8-Channel, Low-Voltage, CMOS Analog Multiplexer; Published: 16-Jan-2001; LatestRevisionDate: 13-Apr-2006; LatestRevisionNote: IPC-7351 Footprint Added.; DatasheetVersion: Jul-1996; PackageReference: NSO16; Publisher: Altium Limited; PackageDescription: 16-Pin Small Outline Integrated Circuit 1.27 mm Pitch; Code_JEDEC: MS-012-AC; Code_IPC: SOIC127P600-16; ComponentLink1Description: Manufacturer Link; ComponentLink1URL: http://www.maxim-ic.com/; ComponentLink2Description: Datasheet; ComponentLink2URL: http://pdfserv.maxim-ic.com/en/ds/MAX398-MAX399.pdf
footprint NSO16_N (SOIC, 16-Leads, Body 9.9x3.9mm, Pitch 1.27mm, IPC Medium Density)
footprint NSO16_L (SOIC, 16-Leads, Body 9.9x3.9mm, Pitch 1.27mm, IPC High Density)
footprint NSO16_M (SOIC, 16-Leads, Body 9.9x3.9mm, Pitch 1.27mm, IPC Low Density)
3D model NSO16 (16-Pin Small Outline Integrated Circuit 1.27 mm Pitch)
pins: 1 A0 (in), 2 EN (in), 3 V- (power), 4 N01 (io), 5 N02 (io), 6 N03 (io), 7 N04 (io), 8 COM (io), 9 N08 (io), 10 N07 (io), 11 N06 (io), 12 N05 (io), 13 V+ (power), 14 GND (power), 15 A2 (in), 16 A1 (in)

## MAX398EJE
designator U?
Precision, 8-Channel, Low-Voltage, CMOS Analog Multiplexer; Published: 16-Jan-2001; LatestRevisionDate: 29-May-2009; LatestRevisionNote: Component Body Added.; DatasheetVersion: Jul-1996; PackageVersion: 1996; PackageReference: JE16; Publisher: Altium Limited; PackageDescription: DIP, 16-Pin, Row Spacing 7.62 mm, Pitch 2.54 mm; ComponentLink1Description: Manufacturer Link; ComponentLink1URL: http://www.maxim-ic.com/; ComponentLink2Description: Datasheet; ComponentLink2URL: http://pdfserv.maxim-ic.com/en/ds/MAX398-MAX399.pdf
footprint JE16 (DIP, 16-Leads, Row Spacing 7.62mm, Pitch 2.54mm, Body 20.37x6.73mm)
3D model JE16 (DIP, 16-Pin, Row Spacing 7.62 mm, Pitch 2.54 mm)
pins: 1 A0 (in), 2 EN (in), 3 V- (power), 4 N01 (io), 5 N02 (io), 6 N03 (io), 7 N04 (io), 8 COM (io), 9 N08 (io), 10 N07 (io), 11 N06 (io), 12 N05 (io), 13 V+ (power), 14 GND (power), 15 A2 (in), 16 A1 (in)

## MAX398EPE
designator U?
Precision, 8-Channel, Low-Voltage, CMOS Analog Multiplexer; Published: 16-Jan-2001; LatestRevisionDate: 29-May-2009; LatestRevisionNote: Component Body Added.; DatasheetVersion: Jul-1996; PackageVersion: Aug-2000; PackageReference: PE16; Publisher: Altium Limited; PackageDescription: DIP, 16-Pin, Row Spacing 7.62 mm, Pitch 2.54 mm; Code_JEDEC: MS-001-BB; ComponentLink1Description: Manufacturer Link; ComponentLink1URL: http://www.maxim-ic.com/; ComponentLink2Description: Datasheet; ComponentLink2URL: http://pdfserv.maxim-ic.com/en/ds/MAX398-MAX399.pdf
footprint PE16 (DIP, 16-Leads, Row Spacing 7.62mm, Pitch 2.54mm, Body 19.18x7.24mm)
3D model PE16 (DIP, 16-Pin, Row Spacing 7.62 mm, Pitch 2.54 mm)
pins: 1 A0 (in), 2 EN (in), 3 V- (power), 4 N01 (io), 5 N02 (io), 6 N03 (io), 7 N04 (io), 8 COM (io), 9 N08 (io), 10 N07 (io), 11 N06 (io), 12 N05 (io), 13 V+ (power), 14 GND (power), 15 A2 (in), 16 A1 (in)

## MAX398ESE
designator U?
Precision, 8-Channel, Low-Voltage, CMOS Analog Multiplexer; Published: 16-Jan-2001; LatestRevisionDate: 13-Apr-2006; LatestRevisionNote: IPC-7351 Footprint Added.; DatasheetVersion: Jul-1996; PackageReference: NSO16; Publisher: Altium Limited; PackageDescription: 16-Pin Small Outline Integrated Circuit 1.27 mm Pitch; Code_JEDEC: MS-012-AC; Code_IPC: SOIC127P600-16; ComponentLink1Description: Manufacturer Link; ComponentLink1URL: http://www.maxim-ic.com/; ComponentLink2Description: Datasheet; ComponentLink2URL: http://pdfserv.maxim-ic.com/en/ds/MAX398-MAX399.pdf
footprint NSO16_N (SOIC, 16-Leads, Body 9.9x3.9mm, Pitch 1.27mm, IPC Medium Density)
footprint NSO16_L (SOIC, 16-Leads, Body 9.9x3.9mm, Pitch 1.27mm, IPC High Density)
footprint NSO16_M (SOIC, 16-Leads, Body 9.9x3.9mm, Pitch 1.27mm, IPC Low Density)
3D model NSO16 (16-Pin Small Outline Integrated Circuit 1.27 mm Pitch)
pins: 1 A0 (in), 2 EN (in), 3 V- (power), 4 N01 (io), 5 N02 (io), 6 N03 (io), 7 N04 (io), 8 COM (io), 9 N08 (io), 10 N07 (io), 11 N06 (io), 12 N05 (io), 13 V+ (power), 14 GND (power), 15 A2 (in), 16 A1 (in)

## MAX398MJE
designator U?
Precision, 8-Channel, Low-Voltage, CMOS Analog Multiplexer; Published: 16-Jan-2001; LatestRevisionDate: 29-May-2009; LatestRevisionNote: Component Body Added.; DatasheetVersion: Jul-1996; PackageVersion: 1996; PackageReference: JE16; Publisher: Altium Limited; PackageDescription: DIP, 16-Pin, Row Spacing 7.62 mm, Pitch 2.54 mm; ComponentLink1Description: Manufacturer Link; ComponentLink1URL: http://www.maxim-ic.com/; ComponentLink2Description: Datasheet; ComponentLink2URL: http://pdfserv.maxim-ic.com/en/ds/MAX398-MAX399.pdf
footprint JE16 (DIP, 16-Leads, Row Spacing 7.62mm, Pitch 2.54mm, Body 20.37x6.73mm)
3D model JE16 (DIP, 16-Pin, Row Spacing 7.62 mm, Pitch 2.54 mm)
pins: 1 A0 (in), 2 EN (in), 3 V- (power), 4 N01 (io), 5 N02 (io), 6 N03 (io), 7 N04 (io), 8 COM (io), 9 N08 (io), 10 N07 (io), 11 N06 (io), 12 N05 (io), 13 V+ (power), 14 GND (power), 15 A2 (in), 16 A1 (in)

## MAX399CPE
designator U?
Precision, Dual 4-Channel, Low-Voltage, CMOS Analog Multiplexer; Published: 16-Jan-2001; LatestRevisionDate: 29-May-2009; LatestRevisionNote: Component Body Added.; DatasheetVersion: Jul-1996; PackageVersion: Aug-2000; PackageReference: PE16; Publisher: Altium Limited; PackageDescription: DIP, 16-Pin, Row Spacing 7.62 mm, Pitch 2.54 mm; Code_JEDEC: MS-001-BB; ComponentLink1Description: Manufacturer Link; ComponentLink1URL: http://www.maxim-ic.com/; ComponentLink2Description: Datasheet; ComponentLink2URL: http://pdfserv.maxim-ic.com/en/ds/MAX398-MAX399.pdf
footprint PE16 (DIP, 16-Leads, Row Spacing 7.62mm, Pitch 2.54mm, Body 19.18x7.24mm)
3D model PE16 (DIP, 16-Pin, Row Spacing 7.62 mm, Pitch 2.54 mm)
pins: 1 A0 (in), 2 EN (in), 3 V- (power), 4 N01A (io), 5 N02A (io), 6 N03A (io), 7 N04A (io), 8 COMA (io), 9 COMB (io), 10 N04B (io), 11 N03B (io), 12 N02B (io), 13 N01B (io), 14 V+ (power), 15 GND (power), 16 A1 (in)

## MAX399CSE
designator U?
Precision, Dual 4-Channel, Low-Voltage, CMOS Analog Multiplexer; Published: 16-Jan-2001; LatestRevisionDate: 13-Apr-2006; LatestRevisionNote: IPC-7351 Footprint Added.; DatasheetVersion: Jul-1996; PackageReference: NSO16; Publisher: Altium Limited; PackageDescription: 16-Pin Small Outline Integrated Circuit 1.27 mm Pitch; Code_JEDEC: MS-012-AC; Code_IPC: SOIC127P600-16; ComponentLink1Description: Manufacturer Link; ComponentLink1URL: http://www.maxim-ic.com/; ComponentLink2Description: Datasheet; ComponentLink2URL: http://pdfserv.maxim-ic.com/en/ds/MAX398-MAX399.pdf
footprint NSO16_N (SOIC, 16-Leads, Body 9.9x3.9mm, Pitch 1.27mm, IPC Medium Density)
footprint NSO16_L (SOIC, 16-Leads, Body 9.9x3.9mm, Pitch 1.27mm, IPC High Density)
footprint NSO16_M (SOIC, 16-Leads, Body 9.9x3.9mm, Pitch 1.27mm, IPC Low Density)
3D model NSO16 (16-Pin Small Outline Integrated Circuit 1.27 mm Pitch)
pins: 1 A0 (in), 2 EN (in), 3 V- (power), 4 N01A (io), 5 N02A (io), 6 N03A (io), 7 N04A (io), 8 COMA (io), 9 COMB (io), 10 N04B (io), 11 N03B (io), 12 N02B (io), 13 N01B (io), 14 V+ (power), 15 GND (power), 16 A1 (in)

## MAX399EJE
designator U?
Precision, Dual 4-Channel, Low-Voltage, CMOS Analog Multiplexer; Published: 16-Jan-2001; LatestRevisionDate: 29-May-2009; LatestRevisionNote: Component Body Added.; DatasheetVersion: Jul-1996; PackageVersion: 1996; PackageReference: JE16; Publisher: Altium Limited; PackageDescription: DIP, 16-Pin, Row Spacing 7.62 mm, Pitch 2.54 mm; ComponentLink1Description: Manufacturer Link; ComponentLink1URL: http://www.maxim-ic.com/; ComponentLink2Description: Datasheet; ComponentLink2URL: http://pdfserv.maxim-ic.com/en/ds/MAX398-MAX399.pdf
footprint JE16 (DIP, 16-Leads, Row Spacing 7.62mm, Pitch 2.54mm, Body 20.37x6.73mm)
3D model JE16 (DIP, 16-Pin, Row Spacing 7.62 mm, Pitch 2.54 mm)
pins: 1 A0 (in), 2 EN (in), 3 V- (power), 4 N01A (io), 5 N02A (io), 6 N03A (io), 7 N04A (io), 8 COMA (io), 9 COMB (io), 10 N04B (io), 11 N03B (io), 12 N02B (io), 13 N01B (io), 14 V+ (power), 15 GND (power), 16 A1 (in)

## MAX399EPE
designator U?
Precision, Dual 4-Channel, Low-Voltage, CMOS Analog Multiplexer; Published: 16-Jan-2001; LatestRevisionDate: 29-May-2009; LatestRevisionNote: Component Body Added.; DatasheetVersion: Jul-1996; PackageVersion: Aug-2000; PackageReference: PE16; Publisher: Altium Limited; PackageDescription: DIP, 16-Pin, Row Spacing 7.62 mm, Pitch 2.54 mm; Code_JEDEC: MS-001-BB; ComponentLink1Description: Manufacturer Link; ComponentLink1URL: http://www.maxim-ic.com/; ComponentLink2Description: Datasheet; ComponentLink2URL: http://pdfserv.maxim-ic.com/en/ds/MAX398-MAX399.pdf
footprint PE16 (DIP, 16-Leads, Row Spacing 7.62mm, Pitch 2.54mm, Body 19.18x7.24mm)
3D model PE16 (DIP, 16-Pin, Row Spacing 7.62 mm, Pitch 2.54 mm)
pins: 1 A0 (in), 2 EN (in), 3 V- (power), 4 N01A (io), 5 N02A (io), 6 N03A (io), 7 N04A (io), 8 COMA (io), 9 COMB (io), 10 N04B (io), 11 N03B (io), 12 N02B (io), 13 N01B (io), 14 V+ (power), 15 GND (power), 16 A1 (in)

## MAX399ESE
designator U?
Precision, Dual 4-Channel, Low-Voltage, CMOS Analog Multiplexer; Published: 16-Jan-2001; LatestRevisionDate: 13-Apr-2006; LatestRevisionNote: IPC-7351 Footprint Added.; DatasheetVersion: Jul-1996; PackageReference: NSO16; Publisher: Altium Limited; PackageDescription: 16-Pin Small Outline Integrated Circuit 1.27 mm Pitch; Code_JEDEC: MS-012-AC; Code_IPC: SOIC127P600-16; ComponentLink1Description: Manufacturer Link; ComponentLink1URL: http://www.maxim-ic.com/; ComponentLink2Description: Datasheet; ComponentLink2URL: http://pdfserv.maxim-ic.com/en/ds/MAX398-MAX399.pdf
footprint NSO16_N (SOIC, 16-Leads, Body 9.9x3.9mm, Pitch 1.27mm, IPC Medium Density)
footprint NSO16_L (SOIC, 16-Leads, Body 9.9x3.9mm, Pitch 1.27mm, IPC High Density)
footprint NSO16_M (SOIC, 16-Leads, Body 9.9x3.9mm, Pitch 1.27mm, IPC Low Density)
3D model NSO16 (16-Pin Small Outline Integrated Circuit 1.27 mm Pitch)
pins: 1 A0 (in), 2 EN (in), 3 V- (power), 4 N01A (io), 5 N02A (io), 6 N03A (io), 7 N04A (io), 8 COMA (io), 9 COMB (io), 10 N04B (io), 11 N03B (io), 12 N02B (io), 13 N01B (io), 14 V+ (power), 15 GND (power), 16 A1 (in)

## MAX399MJE
designator U?
Precision, Dual 4-Channel, Low-Voltage, CMOS Analog Multiplexer; Published: 16-Jan-2001; LatestRevisionDate: 29-May-2009; LatestRevisionNote: Component Body Added.; DatasheetVersion: Jul-1996; PackageVersion: 1996; PackageReference: JE16; Publisher: Altium Limited; PackageDescription: DIP, 16-Pin, Row Spacing 7.62 mm, Pitch 2.54 mm; ComponentLink1Description: Manufacturer Link; ComponentLink1URL: http://www.maxim-ic.com/; ComponentLink2Description: Datasheet; ComponentLink2URL: http://pdfserv.maxim-ic.com/en/ds/MAX398-MAX399.pdf
footprint JE16 (DIP, 16-Leads, Row Spacing 7.62mm, Pitch 2.54mm, Body 20.37x6.73mm)
3D model JE16 (DIP, 16-Pin, Row Spacing 7.62 mm, Pitch 2.54 mm)
pins: 1 A0 (in), 2 EN (in), 3 V- (power), 4 N01A (io), 5 N02A (io), 6 N03A (io), 7 N04A (io), 8 COMA (io), 9 COMB (io), 10 N04B (io), 11 N03B (io), 12 N02B (io), 13 N01B (io), 14 V+ (power), 15 GND (power), 16 A1 (in)

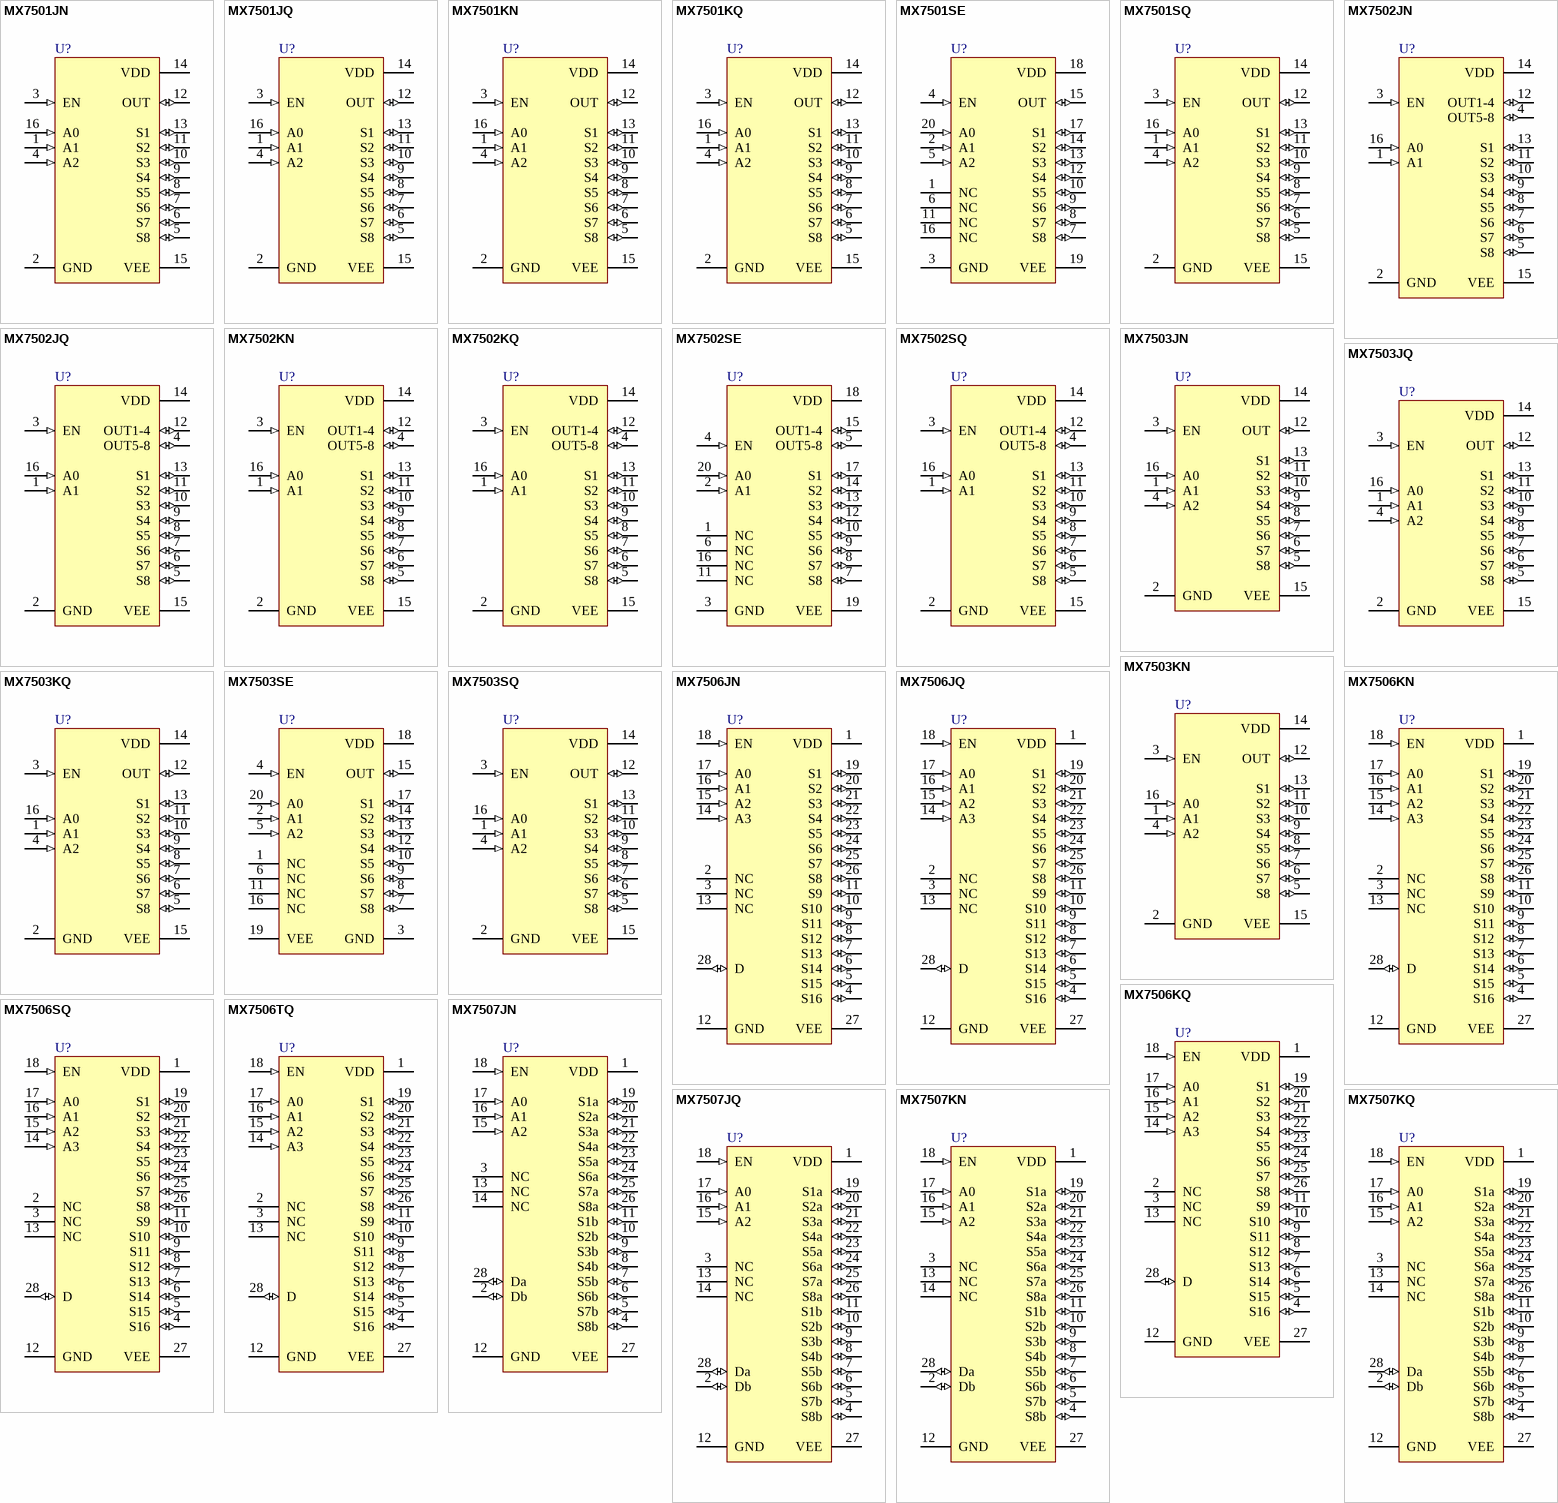
[diagram p5: symbols MX7501JN to MX7507KQ]

## MX7501JN
designator U?
Low-Power, Monolitic, CMOS Analog Multiplexer; Published: 16-Jan-2001; LatestRevisionDate: 29-May-2009; LatestRevisionNote: Component Body Added.; DatasheetVersion: Jul-1990; PackageVersion: 1997; PackageReference: PE16A; Publisher: Altium Limited; PackageDescription: DIP, 16-Pin, Row Spacing 7.62 mm, Pitch 2.54 mm; Code_JEDEC: MS-001-BB; ComponentLink1Description: Manufacturer Link; ComponentLink1URL: http://www.maxim-ic.com/; ComponentLink2Description: Datasheet; ComponentLink2URL: http://pdfserv.maxim-ic.com/en/ds/MX7501-MX7503.pdf
footprint PE16A (DIP, 16-Leads, Row Spacing 7.62mm, Pitch 2.54mm, Body 19.18x6.99mm)
3D model PE16 (DIP, 16-Pin, Row Spacing 7.62 mm, Pitch 2.54 mm)
pins: 1 A1 (in), 2 GND (power), 3 EN (in), 4 A2 (in), 5 S8 (io), 6 S7 (io), 7 S6 (io), 8 S5 (io), 9 S4 (io), 10 S3 (io), 11 S2 (io), 12 OUT (io), 13 S1 (io), 14 VDD (power), 15 VEE (power), 16 A0 (in)

## MX7501JQ
designator U?
Low-Power, Monolitic, CMOS Analog Multiplexer; Published: 16-Jan-2001; LatestRevisionDate: 29-May-2009; LatestRevisionNote: Component Body Added.; DatasheetVersion: Jul-1990; PackageVersion: 1996; PackageReference: JE16; Publisher: Altium Limited; PackageDescription: DIP, 16-Pin, Row Spacing 7.62 mm, Pitch 2.54 mm; ComponentLink1Description: Manufacturer Link; ComponentLink1URL: http://www.maxim-ic.com/; ComponentLink2Description: Datasheet; ComponentLink2URL: http://pdfserv.maxim-ic.com/en/ds/MX7501-MX7503.pdf
footprint JE16 (DIP, 16-Leads, Row Spacing 7.62mm, Pitch 2.54mm, Body 20.37x6.73mm)
3D model JE16 (DIP, 16-Pin, Row Spacing 7.62 mm, Pitch 2.54 mm)
pins: 1 A1 (in), 2 GND (power), 3 EN (in), 4 A2 (in), 5 S8 (io), 6 S7 (io), 7 S6 (io), 8 S5 (io), 9 S4 (io), 10 S3 (io), 11 S2 (io), 12 OUT (io), 13 S1 (io), 14 VDD (power), 15 VEE (power), 16 A0 (in)

## MX7501KN
designator U?
Low-Power, Monolitic, CMOS Analog Multiplexer; Published: 16-Jan-2001; LatestRevisionDate: 29-May-2009; LatestRevisionNote: Component Body Added.; DatasheetVersion: Jul-1990; PackageVersion: 1997; PackageReference: PE16A; Publisher: Altium Limited; PackageDescription: DIP, 16-Pin, Row Spacing 7.62 mm, Pitch 2.54 mm; Code_JEDEC: MS-001-BB; ComponentLink1Description: Manufacturer Link; ComponentLink1URL: http://www.maxim-ic.com/; ComponentLink2Description: Datasheet; ComponentLink2URL: http://pdfserv.maxim-ic.com/en/ds/MX7501-MX7503.pdf
footprint PE16A (DIP, 16-Leads, Row Spacing 7.62mm, Pitch 2.54mm, Body 19.18x6.99mm)
3D model PE16 (DIP, 16-Pin, Row Spacing 7.62 mm, Pitch 2.54 mm)
pins: 1 A1 (in), 2 GND (power), 3 EN (in), 4 A2 (in), 5 S8 (io), 6 S7 (io), 7 S6 (io), 8 S5 (io), 9 S4 (io), 10 S3 (io), 11 S2 (io), 12 OUT (io), 13 S1 (io), 14 VDD (power), 15 VEE (power), 16 A0 (in)

## MX7501KQ
designator U?
Low-Power, Monolitic, CMOS Analog Multiplexer; Published: 16-Jan-2001; LatestRevisionDate: 29-May-2009; LatestRevisionNote: Component Body Added.; DatasheetVersion: Jul-1990; PackageVersion: 1996; PackageReference: JE16; Publisher: Altium Limited; PackageDescription: DIP, 16-Pin, Row Spacing 7.62 mm, Pitch 2.54 mm; ComponentLink1Description: Manufacturer Link; ComponentLink1URL: http://www.maxim-ic.com/; ComponentLink2Description: Datasheet; ComponentLink2URL: http://pdfserv.maxim-ic.com/en/ds/MX7501-MX7503.pdf
footprint JE16 (DIP, 16-Leads, Row Spacing 7.62mm, Pitch 2.54mm, Body 20.37x6.73mm)
3D model JE16 (DIP, 16-Pin, Row Spacing 7.62 mm, Pitch 2.54 mm)
pins: 1 A1 (in), 2 GND (power), 3 EN (in), 4 A2 (in), 5 S8 (io), 6 S7 (io), 7 S6 (io), 8 S5 (io), 9 S4 (io), 10 S3 (io), 11 S2 (io), 12 OUT (io), 13 S1 (io), 14 VDD (power), 15 VEE (power), 16 A0 (in)

## MX7501SE
designator U?
Low-Power, Monolitic, CMOS Analog Multiplexer; Published: 16-Jan-2001; LatestRevisionDate: 17-Jul-2002; LatestRevisionNote: Re-released for DXP Platform.; DatasheetVersion: Jul-1990; PackageReference: LCC20; Publisher: Altium Limited; PackageDescription: Leadless Chip Carrier; 20 Terminals; Body 8.9 x 8.9 mm; ComponentLink1Description: Manufacturer Link; ComponentLink1URL: http://www.maxim-ic.com/; ComponentLink2Description: Datasheet; ComponentLink2URL: http://pdfserv.maxim-ic.com/en/ds/MX7501-MX7503.pdf
footprint LCC20 (Leadless Chip Carrier; 20 Terminals; Body 8.9 x 8.9 mm)
footprint LCC20_N (Leadless Chip Carrier, 20-Leads, Body 8.9x8.9mm, Pitch 1.27mm, IPC Medium Density)
footprint LCC20_L (Leadless Chip Carrier, 20-Leads, Body 8.9x8.9mm, Pitch 1.27mm, IPC High Density)
footprint LCC20_M (Leadless Chip Carrier, 20-Leads, Body 8.9x8.9mm, Pitch 1.27mm, IPC Low Density)
pins: 1 NC, 2 A1 (in), 3 GND (power), 4 EN (in), 5 A2 (in), 6 NC, 7 S8 (io), 8 S7 (io), 9 S6 (io), 10 S5 (io), 11 NC, 12 S4 (io), 13 S3 (io), 14 S2 (io), 15 OUT (io), 16 NC, 17 S1 (io), 18 VDD (power), 19 VEE (power), 20 A0 (in)

## MX7501SQ
designator U?
Low-Power, Monolitic, CMOS Analog Multiplexer; Published: 16-Jan-2001; LatestRevisionDate: 29-May-2009; LatestRevisionNote: Component Body Added.; DatasheetVersion: Jul-1990; PackageVersion: 1996; PackageReference: JE16; Publisher: Altium Limited; PackageDescription: DIP, 16-Pin, Row Spacing 7.62 mm, Pitch 2.54 mm; ComponentLink1Description: Manufacturer Link; ComponentLink1URL: http://www.maxim-ic.com/; ComponentLink2Description: Datasheet; ComponentLink2URL: http://pdfserv.maxim-ic.com/en/ds/MX7501-MX7503.pdf
footprint JE16 (DIP, 16-Leads, Row Spacing 7.62mm, Pitch 2.54mm, Body 20.37x6.73mm)
3D model JE16 (DIP, 16-Pin, Row Spacing 7.62 mm, Pitch 2.54 mm)
pins: 1 A1 (in), 2 GND (power), 3 EN (in), 4 A2 (in), 5 S8 (io), 6 S7 (io), 7 S6 (io), 8 S5 (io), 9 S4 (io), 10 S3 (io), 11 S2 (io), 12 OUT (io), 13 S1 (io), 14 VDD (power), 15 VEE (power), 16 A0 (in)

## MX7502JN
designator U?
Low-Power, Monolitic, CMOS Analog Multiplexer; Published: 16-Jan-2001; LatestRevisionDate: 29-May-2009; LatestRevisionNote: Component Body Added.; DatasheetVersion: Jul-1990; PackageVersion: 1997; PackageReference: PE16A; Publisher: Altium Limited; PackageDescription: DIP, 16-Pin, Row Spacing 7.62 mm, Pitch 2.54 mm; Code_JEDEC: MS-001-BB; ComponentLink1Description: Manufacturer Link; ComponentLink1URL: http://www.maxim-ic.com/; ComponentLink2Description: Datasheet; ComponentLink2URL: http://pdfserv.maxim-ic.com/en/ds/MX7501-MX7503.pdf
footprint PE16A (DIP, 16-Leads, Row Spacing 7.62mm, Pitch 2.54mm, Body 19.18x6.99mm)
3D model PE16 (DIP, 16-Pin, Row Spacing 7.62 mm, Pitch 2.54 mm)
pins: 1 A1 (in), 2 GND (power), 3 EN (in), 4 OUT5-8 (io), 5 S8 (io), 6 S7 (io), 7 S6 (io), 8 S5 (io), 9 S4 (io), 10 S3 (io), 11 S2 (io), 12 OUT1-4 (io), 13 S1 (io), 14 VDD (power), 15 VEE (power), 16 A0 (in)

## MX7502JQ
designator U?
Low-Power, Monolitic, CMOS Analog Multiplexer; Published: 16-Jan-2001; LatestRevisionDate: 29-May-2009; LatestRevisionNote: Component Body Added.; DatasheetVersion: Jul-1990; PackageVersion: 1996; PackageReference: JE16; Publisher: Altium Limited; PackageDescription: DIP, 16-Pin, Row Spacing 7.62 mm, Pitch 2.54 mm; ComponentLink1Description: Manufacturer Link; ComponentLink1URL: http://www.maxim-ic.com/; ComponentLink2Description: Datasheet; ComponentLink2URL: http://pdfserv.maxim-ic.com/en/ds/MX7501-MX7503.pdf
footprint JE16 (DIP, 16-Leads, Row Spacing 7.62mm, Pitch 2.54mm, Body 20.37x6.73mm)
3D model JE16 (DIP, 16-Pin, Row Spacing 7.62 mm, Pitch 2.54 mm)
pins: 1 A1 (in), 2 GND (power), 3 EN (in), 4 OUT5-8 (io), 5 S8 (io), 6 S7 (io), 7 S6 (io), 8 S5 (io), 9 S4 (io), 10 S3 (io), 11 S2 (io), 12 OUT1-4 (io), 13 S1 (io), 14 VDD (power), 15 VEE (power), 16 A0 (in)

## MX7502KN
designator U?
Low-Power, Monolitic, CMOS Analog Multiplexer; Published: 16-Jan-2001; LatestRevisionDate: 29-May-2009; LatestRevisionNote: Component Body Added.; DatasheetVersion: Jul-1990; PackageVersion: 1997; PackageReference: PE16A; Publisher: Altium Limited; PackageDescription: DIP, 16-Pin, Row Spacing 7.62 mm, Pitch 2.54 mm; Code_JEDEC: MS-001-BB; ComponentLink1Description: Manufacturer Link; ComponentLink1URL: http://www.maxim-ic.com/; ComponentLink2Description: Datasheet; ComponentLink2URL: http://pdfserv.maxim-ic.com/en/ds/MX7501-MX7503.pdf
footprint PE16A (DIP, 16-Leads, Row Spacing 7.62mm, Pitch 2.54mm, Body 19.18x6.99mm)
3D model PE16 (DIP, 16-Pin, Row Spacing 7.62 mm, Pitch 2.54 mm)
pins: 1 A1 (in), 2 GND (power), 3 EN (in), 4 OUT5-8 (io), 5 S8 (io), 6 S7 (io), 7 S6 (io), 8 S5 (io), 9 S4 (io), 10 S3 (io), 11 S2 (io), 12 OUT1-4 (io), 13 S1 (io), 14 VDD (power), 15 VEE (power), 16 A0 (in)

## MX7502KQ
designator U?
Low-Power, Monolitic, CMOS Analog Multiplexer; Published: 16-Jan-2001; LatestRevisionDate: 29-May-2009; LatestRevisionNote: Component Body Added.; DatasheetVersion: Jul-1990; PackageVersion: 1996; PackageReference: JE16; Publisher: Altium Limited; PackageDescription: DIP, 16-Pin, Row Spacing 7.62 mm, Pitch 2.54 mm; ComponentLink1Description: Manufacturer Link; ComponentLink1URL: http://www.maxim-ic.com/; ComponentLink2Description: Datasheet; ComponentLink2URL: http://pdfserv.maxim-ic.com/en/ds/MX7501-MX7503.pdf
footprint JE16 (DIP, 16-Leads, Row Spacing 7.62mm, Pitch 2.54mm, Body 20.37x6.73mm)
3D model JE16 (DIP, 16-Pin, Row Spacing 7.62 mm, Pitch 2.54 mm)
pins: 1 A1 (in), 2 GND (power), 3 EN (in), 4 OUT5-8 (io), 5 S8 (io), 6 S7 (io), 7 S6 (io), 8 S5 (io), 9 S4 (io), 10 S3 (io), 11 S2 (io), 12 OUT1-4 (io), 13 S1 (io), 14 VDD (power), 15 VEE (power), 16 A0 (in)

## MX7502SE
designator U?
Low-Power, Monolitic, CMOS Analog Multiplexer; Published: 16-Jan-2001; LatestRevisionDate: 17-Jul-2002; LatestRevisionNote: Re-released for DXP Platform.; DatasheetVersion: Jul-1990; PackageReference: LCC20; Publisher: Altium Limited; PackageDescription: Leadless Chip Carrier; 20 Terminals; Body 8.9 x 8.9 mm; ComponentLink1Description: Manufacturer Link; ComponentLink1URL: http://www.maxim-ic.com/; ComponentLink2Description: Datasheet; ComponentLink2URL: http://pdfserv.maxim-ic.com/en/ds/MX7501-MX7503.pdf
footprint LCC20 (Leadless Chip Carrier; 20 Terminals; Body 8.9 x 8.9 mm)
footprint LCC20_N (Leadless Chip Carrier, 20-Leads, Body 8.9x8.9mm, Pitch 1.27mm, IPC Medium Density)
footprint LCC20_L (Leadless Chip Carrier, 20-Leads, Body 8.9x8.9mm, Pitch 1.27mm, IPC High Density)
footprint LCC20_M (Leadless Chip Carrier, 20-Leads, Body 8.9x8.9mm, Pitch 1.27mm, IPC Low Density)
pins: 1 NC, 2 A1 (in), 3 GND (power), 4 EN (in), 5 OUT5-8 (io), 6 NC, 7 S8 (io), 8 S7 (io), 9 S6 (io), 10 S5 (io), 11 NC, 12 S4 (io), 13 S3 (io), 14 S2 (io), 15 OUT1-4 (io), 16 NC, 17 S1 (io), 18 VDD (power), 19 VEE (power), 20 A0 (in)